# EAGLE library part LCD-C0802-04 (library LCD-C0802-04)
Pollin LCD Display mit 2 Zeilen mit je 8 Zeichen. Wird wie ein 16*2 angesteuert (nur die ersten 8 Zeichen werden dargestellt).
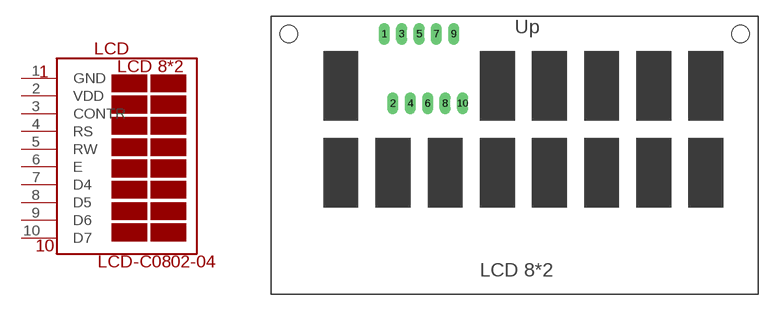
[diagram p0: symbol with the pads of LCD-C0802-04; footprint LCD-C0802-04]

Designator prefix LCD

## LCD-C0802-04  [LCD-C0802-04]
1  GND  pwr
2  VDD  pwr
3  CONTR  pas
4  RS
5  RW
6  E
7  D4
8  D5
9  D6
10  D7

## Footprint LCD-C0802-04 (pad centres in mm)
Pollin LCD-Modul C0802-04
drill 0.5 long: 1 -13.494,9.525; 2 -12.7,3.175; 3 -11.906,9.525; 4 -11.113,3.175; 5 -10.319,9.525; 6 -9.525,3.175; 7 -8.731,9.525; 8 -7.938,3.175; 9 -7.144,9.525; 10 -6.35,3.175
hole 1.6 at -22.225,9.525
hole 1.6 at 19.05,9.525